# Altium schematic symbol library MG_Resistance.SchLib: 1 symbol
Pins are listed as number, name and electrical type; pins without a type are passive.

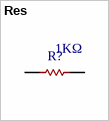
[diagram p0: symbol Res]

## Res
designator R?  value 1KΩ
Resistor
pins: 1, 2